# EAGLE library part ARDUINO-LEO (library me)
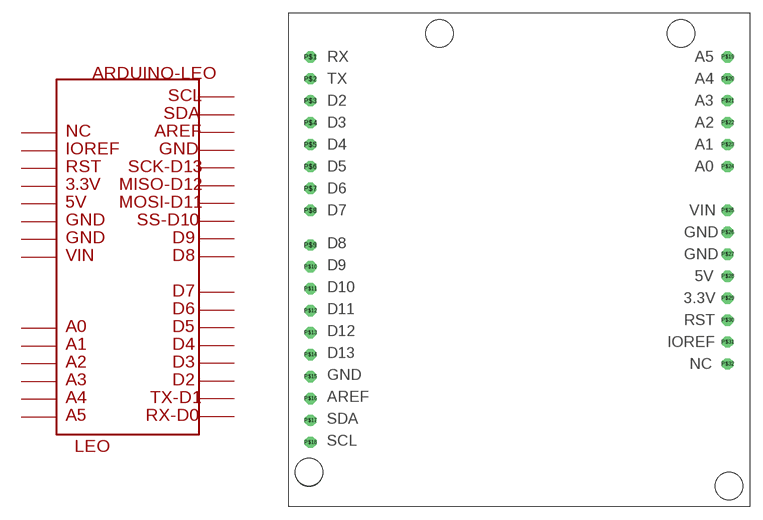
[diagram p10: symbol with the pads of ARDUINO-LEO; footprint ARDUINO-LEO]

Designator prefix LEO

## ARDUINO-LEO  [ARDUINO-LEO]
P$1  P$1
P$2  P$2
P$3  P$3
P$4  P$4
P$5  P$5
P$6  P$6
P$7  P$7
P$8  P$8
P$9  P$9
P$10  P$10
P$11  P$11
P$12  P$12
P$13  P$13
P$14  P$14
P$15  P$15
P$16  P$16
P$17  P$17
P$18  P$18
P$19  P$19
P$20  P$20
P$21  P$21
P$22  P$22
P$23  P$23
P$24  P$24
P$25  P$25
P$26  P$26
P$27  P$27
P$28  P$28
P$29  P$29
P$30  P$30
P$31  P$31
P$32  P$32

## Footprint ARDUINO-LEO (pad centres in mm)
drill 0.8 octagon: P$1 -22.86,20.32; P$2 -22.86,17.78; P$3 -22.86,15.24; P$4 -22.86,12.7; P$5 -22.86,10.16; P$6 -22.86,7.62; P$7 -22.86,5.08; P$8 -22.86,2.54; P$9 -22.86,-1.46; P$10 -22.86,-4; P$11 -22.86,-6.54; P$12 -22.86,-9.08; P$13 -22.86,-11.62; P$14 -22.86,-14.16; P$15 -22.86,-16.7; P$16 -22.86,-19.24; P$17 -22.86,-21.78; P$18 -22.86,-24.32; P$19 25.4,20.32; P$20 25.4,17.78; P$21 25.4,15.24; P$22 25.4,12.7; P$23 25.4,10.16; P$24 25.4,7.62; P$25 25.4,2.54; P$26 25.4,0; P$27 25.4,-2.54; P$28 25.4,-5.08; P$29 25.4,-7.62; P$30 25.4,-10.16; P$31 25.4,-12.7; P$32 25.4,-15.24
hole 3.2 at 25.559,-29.369
hole 3.2 at -23.019,-27.781
hole 3.2 at -7.938,23.019
hole 3.2 at 20.003,23.019